# Altium footprint library Potentiometers.PcbLib: 8 footprints
Each footprint in its own frame and in the unit in brackets; x right, y up, seen from the top. Pads: shape width x height; smd on the part's side, far side on the other; paste and mask are expansions set on the pad; w line width, h text height; cw(c..) or ccw(c..) is an arc to the next point about the centre after c.
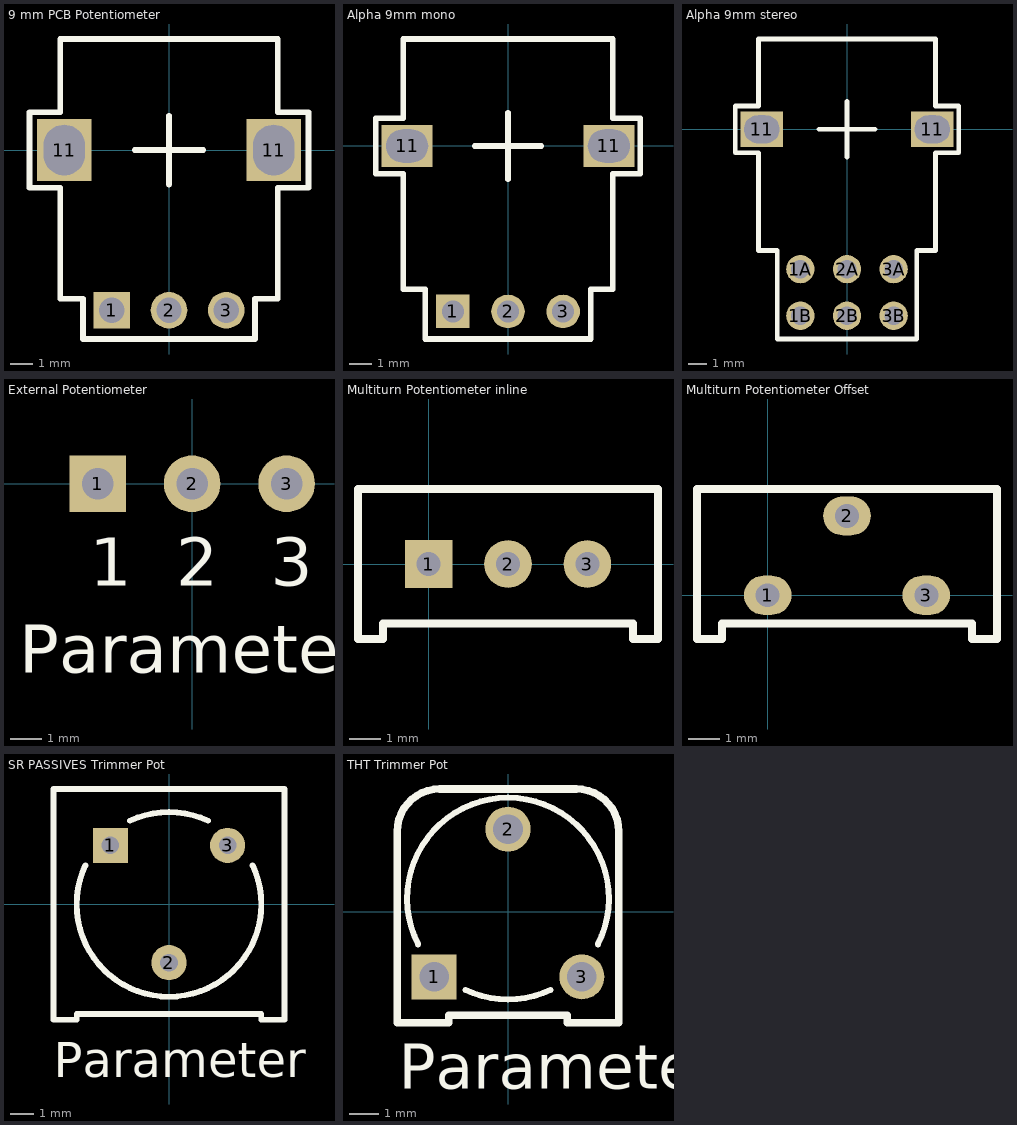
[diagram p0: the footprints below, top view; thin cyan lines are the x and y axes]

## 9 mm PCB Potentiometer [mm] "Generic 9 mm shaft potentiometer PCB mount"
pads (5):
  rect 1.6x1.6 hole 1.1: 1(-2.5,-7)
  round 1.6 hole 1.1: 2(0,-7) 3(2.5,-7)
  rect 2.4x2.7 hole 1.8 slot 2.2 at 90 deg: 11(-4.575,0) 11(4.575,0)
Top Overlay:
  lines w0.254: -1.5,0 1.5,0 ; 0,-1.5 0,1.5 ; -6.096,-1.651 -6.096,1.651 -4.75,1.651 -4.75,4.85 0,4.85 4.75,4.85 4.75,1.651 6.096,1.651 6.096,-1.651 4.75,-1.651 4.75,-6.5 3.75,-6.5 3.75,-8.255 -3.75,-8.255 -3.75,-6.5 -4.75,-6.5 -4.75,-1.651 -6.096,-1.651
3D body "R-0904N-L-25KCv2.step": height 25, standoff -3.79, extent -5.661,-7.1 5.661,5.5

## Alpha 9mm mono [mm] "Alpha 9 mm mono potentiometer"
pads (5):
  rect 1.524x1.524 hole 1: 1(-2.5,-7.5)
  round 1.524 hole 1: 2(0,-7.5) 3(2.5,-7.5)
  rect 2.3x1.9 hole 1.5 slot 1.9 at 0 deg: 11(-4.575,0) 11(4.575,0)
Top Overlay:
  lines w0.254: -1.5,0 1.5,0 ; 0,-1.5 0,1.5 ; -6,-1.25 -4.75,-1.25 -4.75,-6.5 -3.75,-6.5 -3.75,-8.75 3.75,-8.75 3.75,-6.5 4.75,-6.5 4.75,-1.25 6,-1.25 6,1.25 4.75,1.25 4.75,4.85 0,4.85 -4.75,4.85 -4.75,1.25 -6,1.25 -6,-1.25
3D body "RD901F-40-15R1.step": height 25.1, standoff -3.4, extent -5.854,-7.65 5.854,4.85

## Alpha 9mm stereo [mm] "Alpha 9 mm stereo potentiometer"
pads (8):
  round 1.524 hole 1: 1A(-2.5,-7.5) 1B(-2.5,-10) 2A(0,-7.5) 2B(0,-10) 3A(2.5,-7.5) 3B(2.5,-10)
  rect 2.3x1.9 hole 1.5 slot 1.9 at 0 deg: 11(-4.575,0) 11(4.575,0)
Top Overlay:
  lines w0.254: -1.5,0 1.5,0 ; 0,-1.5 0,1.5 ; -6,-1.25 -4.75,-1.25 -4.75,-6.5 -3.75,-6.5 -3.75,-11.25 3.75,-11.25 3.75,-6.5 4.75,-6.5 4.75,-1.25 6,-1.25 6,1.25 4.75,1.25 4.75,4.85 0,4.85 -4.75,4.85 -4.75,1.25 -6,1.25 -6,-1.25
3D body "RD902F-40-00D.stp": height 25, standoff -3.5, extent -5.854,-10.15 5.854,4.85

## External Potentiometer [mm] "Pads for output potentiometers"
pads (3):
  rect 1.8x1.8 hole 1: 1(-3,0)
  round 1.8 hole 1: 2(0,0) 3(3,0)
Top Overlay:
  text "3" at 2.504,-3.246 h1.52
  text "2" at -0.496,-3.246 h1.52
  text "1" at -3.246,-3.246 h1.52
  text "Parameter" at -5.496,-5.996 h1.52

## Multiturn Potentiometer inline [mil] "PCB mount inline multiturn trimmer pot with parameter label"
pads (3):
  rect 60x60 hole 30: 1(0,0)
  round 60 hole 30: 2(100,0) 3(200,0)
Top Overlay:
  lines w10: -88.98,-94.49 -57.48,-94.49 -57.48,-74.8 257.48,-74.8 257.48,-94.49 288.98,-94.49 288.98,94.49 -88.98,94.49 -88.98,-94.49
3D body "Trimpot 3296W.step": height 453.54, standoff -78.74, extent -88.98,-94.88 288.98,94.88

## Multiturn Potentiometer Offset [mil] "PCB mount offset multiturn trimmer pot with parameter label"
pads (3):
  oval 60x49.21 hole 30: 1(0,0) 2(100,100) 3(200,0)
Top Overlay:
  lines w10: -88.98,-55.12 -57.48,-55.12 -57.48,-35.43 257.48,-35.43 257.48,-55.12 288.98,-55.12 288.98,133.86 -88.98,133.86 -88.98,-55.12
3D body "Trimpot 3296W.step": height 453.54, standoff -78.74, extent -88.98,-44.88 288.98,144.88

## SR PASSIVES Trimmer Pot [mil] "SR PASSIVES PCB mount trimmer pot with parameter label"
pads (3):
  rect 60x60 hole 30: 1(-100,100.59)
  round 60 hole 30: 2(0,-99.41) 3(100,100.59)
Top Overlay:
  lines w10: -142.73,66.55 ccw(c0,0) 142.73,66.55 ; -66.58,142.79 cw(c0,0) 66.58,142.79 ; -196.85,-196.85 -196.85,196.85 196.85,196.85 196.85,-196.85 157.48,-196.85 157.48,-187.01 -157.48,-187.01 -157.48,-196.85 -196.85,-196.85
  text "Parameter" at -196.69,-295.12 h60
3D body "Trimpot 3386F.step": height 190.16, standoff -78.74, extent -188.19,-188.19 188.19,188.19

## THT Trimmer Pot [mm] "PCB Mount Trimmer Potentiometer Top Adjustable"
pads (3):
  rect 1.524x1.524 hole 1: 1(-2.5,-2.2)
  round 1.524 hole 1: 2(0,2.8) 3(2.5,-2.2)
Top Overlay:
  lines w0.2: -3.04,-1.099 cw(c0,0.45) 3.04,-1.099 ; -1.442,-2.643 ccw(c0,0.45) 1.442,-2.643
  lines w0.254: -3.75,-3.75 -3.75,2.721 cw(c-2.315,2.721) -2.315,4.156 2.315,4.156 cw(c2.315,2.721) 3.75,2.721 3.75,-3.75 2,-3.75 2,-3.5 -2,-3.5 -2,-3.75 -3.75,-3.75
  text "Parameter" at -3.696,-5.996 h1.52
3D body "Trimpot Horiz 5mm.step": height 7.55, standoff -1.9, extent -3.25,-3.35 3.25,3.625